# EAGLE library part PINHD-17 (library m_connector)
14 Pin Header
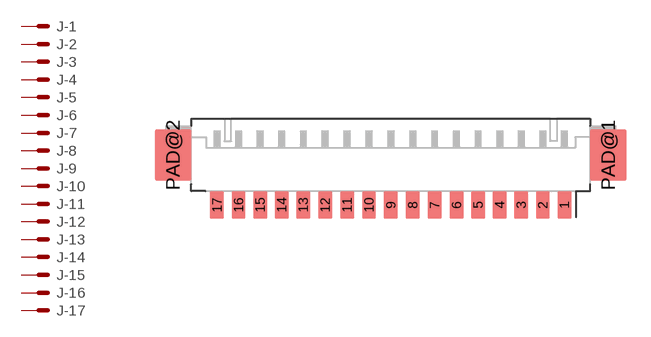
[diagram p22: symbol with the pads of MOLEX_53261-1771; footprint MOLEX_53261-1771]

Designator prefix J; gates -1=M -2=M -3=M -4=M -5=M -6=M -7=M -8=M -9=M -10=M -11=M -12=M -13=M -14=M -15=M -16=M -17=M

## PINHD-17MOLEX-PICOBLADE-SMT-RIGHT_ANGLE  [MOLEX_53261-1771]
1  -1:S  pas
2  -2:S  pas
3  -3:S  pas
4  -4:S  pas
5  -5:S  pas
6  -6:S  pas
7  -7:S  pas
8  -8:S  pas
9  -9:S  pas
10  -10:S  pas
11  -11:S  pas
12  -12:S  pas
13  -13:S  pas
14  -14:S  pas
15  -15:S  pas
16  -16:S  pas
17  -17:S  pas

## Footprint MOLEX_53261-1771 (pad centres in mm)
Molex 53261 Series PicoBlade, 1.25mm Pitch, Right Angle, SMT, 17 Conductor Molex 1.25mm pitch right angle SMT connector. Pre tinned phosphor bronze pins, mates with 51021 series.
smd 0.8 x 1.6: 1 9.435,-0.8; 2 8.185,-0.8; 3 6.935,-0.8; 4 5.685,-0.8; 5 4.435,-0.8; 6 3.185,-0.8; 7 1.915,-0.8; 8 0.645,-0.8; 9 -0.625,-0.8; 10 -1.895,-0.8; 11 -3.165,-0.8; 12 -4.435,-0.8; 13 -5.705,-0.8; 14 -6.955,-0.8; 15 -8.205,-0.8; 16 -9.455,-0.8; 17 -10.705,-0.8
smd 2.1 x 3: PAD@1 11.985,2.1; PAD@2 -13.255,2.1